# EAGLE library part AVX9258 (library dubec)
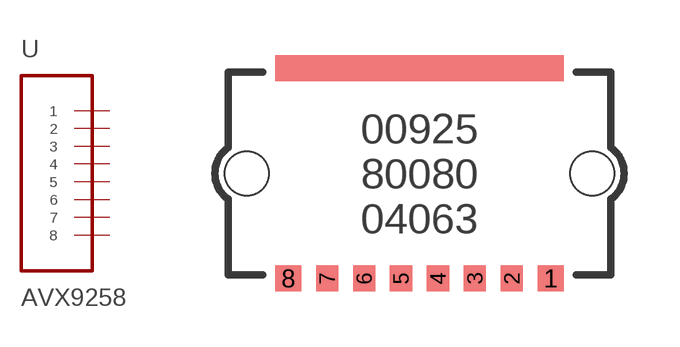
[diagram p12: symbol with the pads of AVX9258-8C; footprint AVX9258-8C]

Designator prefix -

## AVX9258 (DIGIKEY_PART_#: 478-5495-1-ND; EURO: 1.30; MANUFACTURER: AVX Corporation; MFG_PART_#: 009258008004063)  [AVX9258-8C]
1  1  pas
2  2  pas
3  3  pas
4  4  pas
5  5  pas
6  6  pas
7  7  pas
8  8  pas

## Footprint AVX9258-8C (pad centres in mm)
smd 0.7 x 0.7: 1 3.55,-2.85; 8 -3.55,-2.85
smd 0.6 x 0.7: 2 2.5,-2.85; 3 1.5,-2.85; 4 0.5,-2.85; 5 -0.5,-2.85; 6 -1.5,-2.85; 7 -2.5,-2.85
hole 1.2 at -4.675,0
hole 1.2 at 4.675,0